# Altium integrated library P2N2222A.IntLib: 1 symbol
Pins are listed as number, name and electrical type; pins without a type are passive.

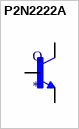
[diagram p0: symbol P2N2222A]

## P2N2222A
designator Q
Transitor lưỡng cực _BJT_ NPN 40V 600mA 300 MHz 625mW qua lỗ TO-92-3; MP: P2N2222A; MF: ON Semiconductor
footprint TO92
pins: 1 E, 2 B, 3 C